# Altium footprint library 90130-1106.PcbLib: 1 footprints
Each footprint in its own frame and in the unit in brackets; x right, y up, seen from the top. Pads: shape width x height; smd on the part's side, far side on the other; paste and mask are expansions set on the pad; w line width, h text height; cw(c..) or ccw(c..) is an arc to the next point about the centre after c.
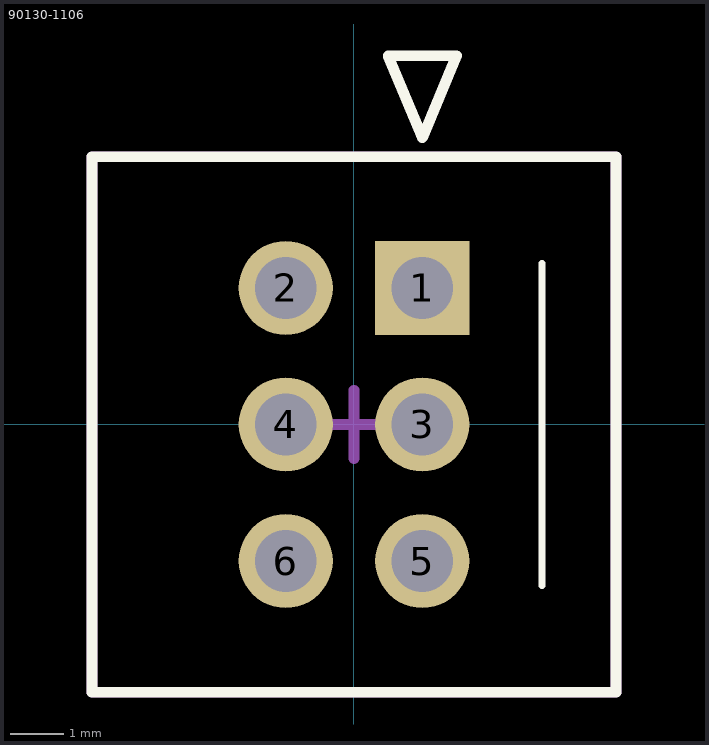
[diagram p0: the footprint, top view; thin cyan lines are the x and y axes]

## 90130-1106 [mm]
pads (6):
  rect 1.75x1.75 hole 1.15 mask+0.051: 1(1.27,2.54)
  round 1.75 hole 1.15 mask+0.051: 2(-1.27,2.54) 3(1.27,0) 4(-1.27,0) 5(1.27,-2.54) 6(-1.27,-2.54)
Top Overlay:
  lines w0.127: 3.5,-3 3.5,3
  lines w0.2: -4.875,-4.98 -4.875,4.98 -4.656,4.98 4.875,4.98 4.875,-4.98 -4.875,-4.98 ; 0.635,6.858 1.905,6.858 1.27,5.334 0.635,6.858
Top Designator:
  text ".Designator" at -7.618,-0.14 h1.52
3D Body:
  lines w0.2: -4.875,-4.98 -4.875,4.98 4.875,4.98 4.875,-4.98 -4.875,-4.98
Center Cross:
  lines w0.2: -0.635,0 0.635,0 ; 0,-0.635 0,0.635
3D body "901301106.stp": height 10.91, standoff -2.89, extent -4.875,-4.98 4.875,4.98